# Altium footprint library led.PcbLib: 5 footprints
Each footprint in its own frame and in the unit in brackets; x right, y up, seen from the top. Pads: shape width x height; smd on the part's side, far side on the other; paste and mask are expansions set on the pad; w line width, h text height; cw(c..) or ccw(c..) is an arc to the next point about the centre after c.
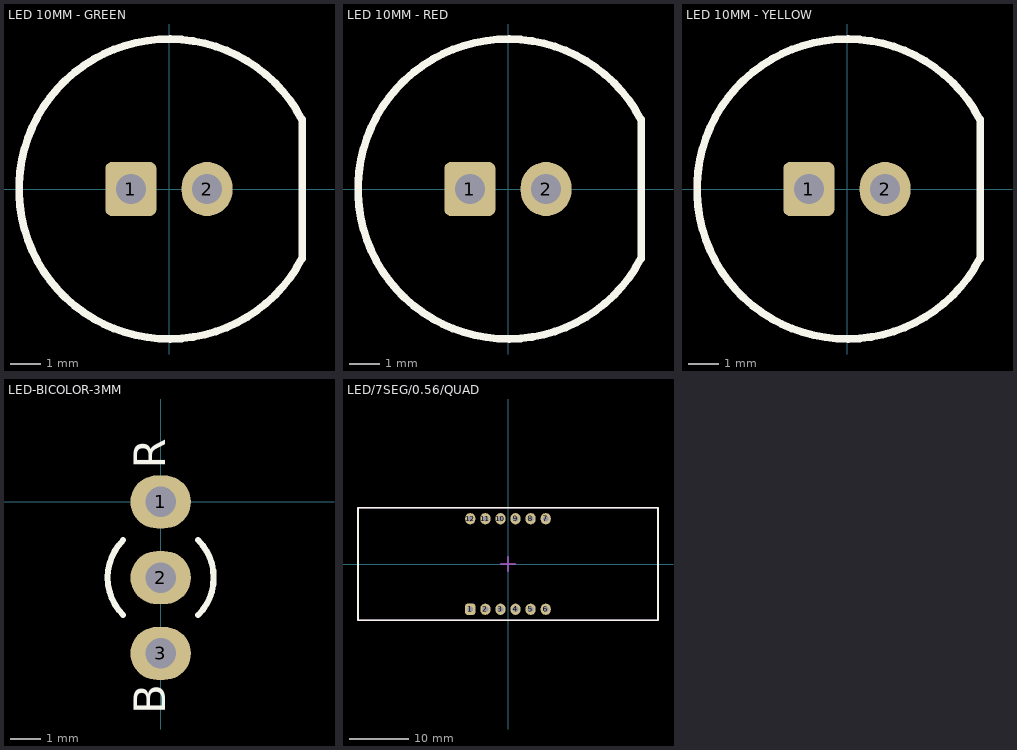
[diagram p0: the footprints below, top view; thin cyan lines are the x and y axes]

## LED 10MM - GREEN [mm]
pads (2):
  rrect25% 1.7x1.8 hole 1: 1(-1.27,0)
  oval 1.7x1.8 hole 1: 2(1.27,0)
Top Overlay:
  lines w0.254: 4.428,-2.323 cw(c0,0) 4.428,2.323 ; 4.44,-2.33 4.44,2.33
3D body "LED 10mm Green.step": height 14.15, standoff -5.5, extent -5.5,-5.5 5.5,5.5

## LED 10MM - RED [mm]
pads (2):
  rrect25% 1.7x1.8 hole 1: 1(-1.27,0)
  oval 1.7x1.8 hole 1: 2(1.27,0)
Top Overlay:
  lines w0.254: 4.428,-2.323 cw(c0,0) 4.428,2.323 ; 4.44,-2.33 4.44,2.33
3D body "LED 10mm Red.step": height 14.15, standoff -5.5, extent -5.5,-5.5 5.5,5.5

## LED 10MM - YELLOW [mm]
pads (2):
  rrect25% 1.7x1.8 hole 1: 1(-1.27,0)
  oval 1.7x1.8 hole 1: 2(1.27,0)
Top Overlay:
  lines w0.254: 4.428,-2.323 cw(c0,0) 4.428,2.323 ; 4.44,-2.33 4.44,2.33
3D body "LED 10mm Yellow.step": height 14.15, standoff -5.5, extent -5.5,-5.5 5.5,5.5

## LED-BICOLOR-3MM [mm] "Diode, Axial; Body 5.2 x 2.7 mm (LxDia. max), Lead Dia. 0.86 mm (max)"
height 2.8
pads (3):
  oval 2x1.75 hole 1: 1(0,0) 2(0,-2.5) 3(0,-5)
Top Overlay:
  lines w0.2: -1.237,-3.737 cw(c0,-2.5) -1.237,-1.263 ; 1.237,-3.737 ccw(c0,-2.5) 1.237,-1.263
  text "R" at 0.5,1.1 h1.8
  text "B" at 0.5,-7 h1.8
3D body "User Library-3mmLED_Thruhole v5.step": height 6.76, standoff -3.28, extent -2.024,-5.294 2.025,0.286

## LED/7SEG/0.56/QUAD [mm]
pads (12):
  rrect50% 1.7x1.9 hole 1: 1(-6.35,-7.62)
  oval 1.7x1.9 hole 1: 2(-3.81,-7.62) 3(-1.27,-7.62) 4(1.27,-7.62) 5(3.81,-7.62) 6(6.35,-7.62) 7(6.35,7.62) 8(3.81,7.62) 9(1.27,7.62) 10(-1.27,7.62) 11(-3.81,7.62) 12(-6.35,7.62)
Top Overlay:
  lines w0.254: -25.25,-9.5 -25.25,9.5 25.25,9.5 25.25,-9.5 -25.25,-9.5
Mechanical 1:
  lines w0.254: -1.25,0 0,0 ; 0,-1.25 0,0 ; 0,1.25 0,0 ; 1.25,0 0,0 ; -25.25,-9.5 -25.25,9.5 25.25,9.5 25.25,-9.5 -25.25,-9.5
3D body "User Library-C-564 (7 segment 4 digit LED display).step": height 8, standoff -6.2, extent -25.2,-9.5 25.2,9.5